# Altium schematic symbol library IC_Texas_Instruments_SN74LVC4245APW_eec.SchLib: 1 symbol
Pins are listed as number, name and electrical type; pins without a type are passive.

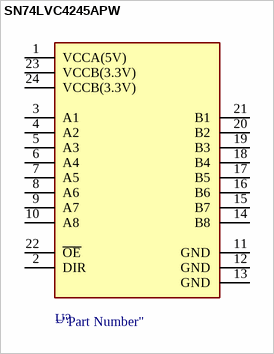
[diagram p0: symbol SN74LVC4245APW]

## SN74LVC4245APW
designator U?  (value not drawn)
pins: 1 VCCA(5V), 2 DIR, 3 A1, 4 A2, 5 A3, 6 A4, 7 A5, 8 A6, 9 A7, 10 A8, 11 GND, 12 GND, 13 GND, 14 B8, 15 B7, 16 B6, 17 B5, 18 B4, 19 B3, 20 B2, 21 B1, 22 ~{OE}, 23 VCCB(3.3V), 24 VCCB(3.3V)